# Altium footprint library WE-CNSW, 1206.PcbLib: 1 footprints
Each footprint in its own frame and in the unit in brackets; x right, y up, seen from the top. Pads: shape width x height; smd on the part's side, far side on the other; paste and mask are expansions set on the pad; w line width, h text height; cw(c..) or ccw(c..) is an arc to the next point about the centre after c.
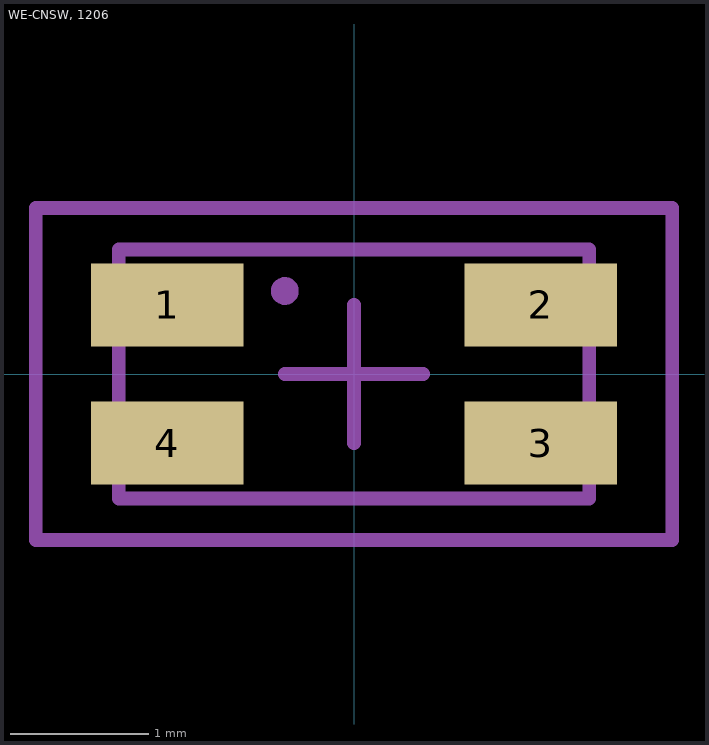
[diagram p0: the footprint, top view; thin cyan lines are the x and y axes]

## WE-CNSW, 1206 [mm] "SMD Inductor, 4-Leads, Body 1,8x3,4mm Note:The land pattern and the 3D model do not align completely to each other in this component library.However, this is not a bug. It¡¯s the land pattern resulting in best overall soldering behavior.Wurth Elektronik p"
height 2.1
pads (4):
  rect 1.1x0.6 smd: 1(-1.35,0.5) 2(1.35,0.5) 3(1.35,-0.5) 4(-1.35,-0.5)
Mechanical 13:
  circle w0.1: c-0.5,0.6 r0.05
  lines w0.1: -1.7,-0.9 -1.7,0.9 1.7,0.9 1.7,-0.9 -1.7,-0.9
Mechanical 15:
  lines w0.1: -0.5,0 0.5,0 ; 0,-0.5 0,0.5 ; -2.3,-1.2 -2.3,1.2 2.3,1.2 2.3,-1.2 -2.3,-1.2
3D body "744232161.stp": height 1.88, standoff -0.02, extent -1.6,-0.8 1.6,0.8